# Altium footprint library 2020-10-28_06-41-42.PcbLib: 1 footprints
Each footprint in its own frame and in the unit in brackets; x right, y up, seen from the top. Pads: shape width x height; smd on the part's side, far side on the other; paste and mask are expansions set on the pad; w line width, h text height; cw(c..) or ccw(c..) is an arc to the next point about the centre after c.
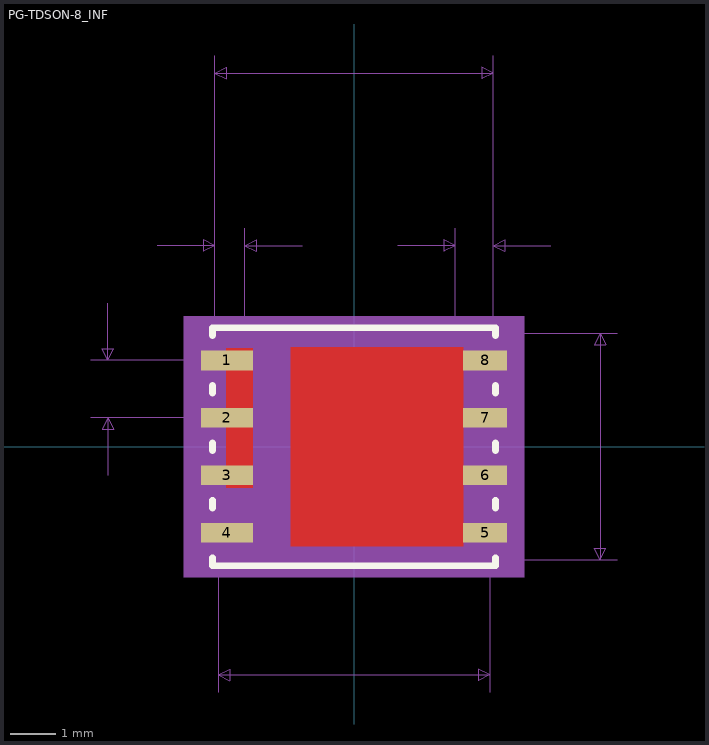
[diagram p0: the footprint, top view; thin cyan lines are the x and y axes]

## PG-TDSON-8_INF [mil]
pads (8):
  rect 45x17 smd paste+0 mask+0: 1(-110.5,75) 2(-110.5,25) 3(-110.5,-25) 4(-110.5,-75)
  rect 38x17 smd paste+0 mask+0: 5(114,-75) 6(114,-25) 7(114,25) 8(114,75)
Top Layer:
  region: 95,86.5 -55,86.5 -55,-86.5 95,-86.5
  region: -111,85.5 -88,85.5 -88,-35.5 -111,-35.5
Top Overlay:
  lines w6: -123,-96.6 -123,-103.5 123,-103.5 123,-96.6 ; -123,-53.4 -123,-46.6 ; -123,-3.4 -123,3.4 ; -123,46.6 -123,53.4 ; -123,96.6 -123,103.5 123,103.5 123,96.6 ; 123,-53.4 123,-46.6 ; 123,-3.4 123,3.4 ; 123,46.6 123,53.4
Top Paste:
  region: -28.94,82.56 -71.06,82.56 -71.06,32.77 -28.94,32.77
  region: -28.94,24.9 -71.06,24.9 -71.06,-24.9 -28.94,-24.9
  region: -28.94,-32.77 -71.06,-32.77 -71.06,-82.56 -28.94,-82.56
  region: 21.06,82.56 -21.06,82.56 -21.06,32.77 21.06,32.77
  region: 21.06,24.9 -21.06,24.9 -21.06,-24.9 21.06,-24.9
  region: 21.06,-32.77 -21.06,-32.77 -21.06,-82.56 21.06,-82.56
  region: 71.06,82.56 28.94,82.56 28.94,32.77 71.06,32.77
  region: 71.06,24.9 28.94,24.9 28.94,-24.9 71.06,-24.9
  region: 71.06,-32.77 28.94,-32.77 28.94,-82.56 71.06,-82.56
  region: 95,86.5 -55,86.5 -55,-86.5 95,-86.5
  region: -111,85.5 -88,85.5 -88,-35.5 -111,-35.5
Top Solder:
  region: 95,86.5 -55,86.5 -55,-86.5 95,-86.5
  region: -111,85.5 -88,85.5 -88,-35.5 -111,-35.5
Mechanical 5:
  region: 148,-113.5 -148,-113.5 -148,113.5 148,113.5
Mechanical 7:
  lines w1: -229,25 -114,25 ; -229,75 -114,75 ; -214,-25 -214,25 ; -214,125 -214,75 ; -171,175 -121,175 ; -121,190 -121,75 -121,340 ; -118,-213.5 -118,-98.5 ; -95,75 -95,190 ; -45,175 -95,175 ; 38,175 88,175 ; 88,75 88,190 ; 118,-213.5 118,-98.5 229,-98.5 ; 118,98.5 229,98.5 ; 121,190 121,75 121,340 ; 171,175 121,175 ; -214,25 -219,15 -209,15 -214,25 ; -214,75 -219,85 -209,85 -214,75 ; -121,175 -131,180 -131,170 -121,175 ; -121,325 121,325 ; -121,325 -111,330 -111,320 -121,325 ; -118,-198.5 118,-198.5 ; -118,-198.5 -108,-193.5 -108,-203.5 -118,-198.5 ; -95,175 -85,180 -85,170 -95,175 ; 88,175 78,180 78,170 88,175 ; 118,-198.5 108,-193.5 108,-203.5 118,-198.5 ; 121,175 131,180 131,170 121,175 ; 121,325 111,330 111,320 121,325 ; 214,-98.5 214,98.5 ; 214,-98.5 209,-88.5 219,-88.5 214,-98.5 ; 214,98.5 209,88.5 219,88.5 214,98.5
  text "Default Padstyle: RX38Y17D0T" at -350,-458.5 h50
  text "Heat Tab Padstyle: RX150Y173D0T" at -387.5,-518.5 h50
  text "Alt 1 Padstyle: OX60Y90D30P" at -337.5,-638.5 h50
  text "Alt 2 Padstyle: OX90Y60D30P" at -337.5,-698.5 h50
  text "0.242in/6.147mm" at -93.75,345 h25
  text "0.026in/0.66mm" at -195.5,195 h25
  text "0.033in/0.838mm" at 10.75,195 h25
  text "0.05in/1.27mm" at -396.5,37.5 h25
  text "0.197in/5.004mm" at 234,-12.5 h25
  text "0.236in/5.994mm" at -93.75,-243.5 h25
Mechanical 13:
  circle w0: c-95,75 r0
  lines w0: -12,98.5 ccw(c0,98.5) 12,98.5
  lines w1: -118,-98.5 118,-98.5 118,98.5 -118,98.5 -118,-98.5
Mechanical 15:
  region: -128,-102 -143,-102 -143,102 -128,102 -128,108.5 128,108.5 128,102 143,102 143,-102 128,-102 128,-108.5 -128,-108.5
  lines w6: -143,-102 -143,102 -128,102 -128,108.5 128,108.5 128,102 143,102 143,-102 128,-102 128,-108.5 -128,-108.5 -128,-102 -143,-102
3D body: height 10, standoff 0, extent 0,0 10,10